# Altium footprint library SS_Connectors.PcbLib: 234 footprints (part 14 of 15)
Each footprint in its own frame and in the unit in brackets; x right, y up, seen from the top. Pads: shape width x height; smd on the part's side, far side on the other; paste and mask are expansions set on the pad; w line width, h text height; cw(c..) or ccw(c..) is an arc to the next point about the centre after c.
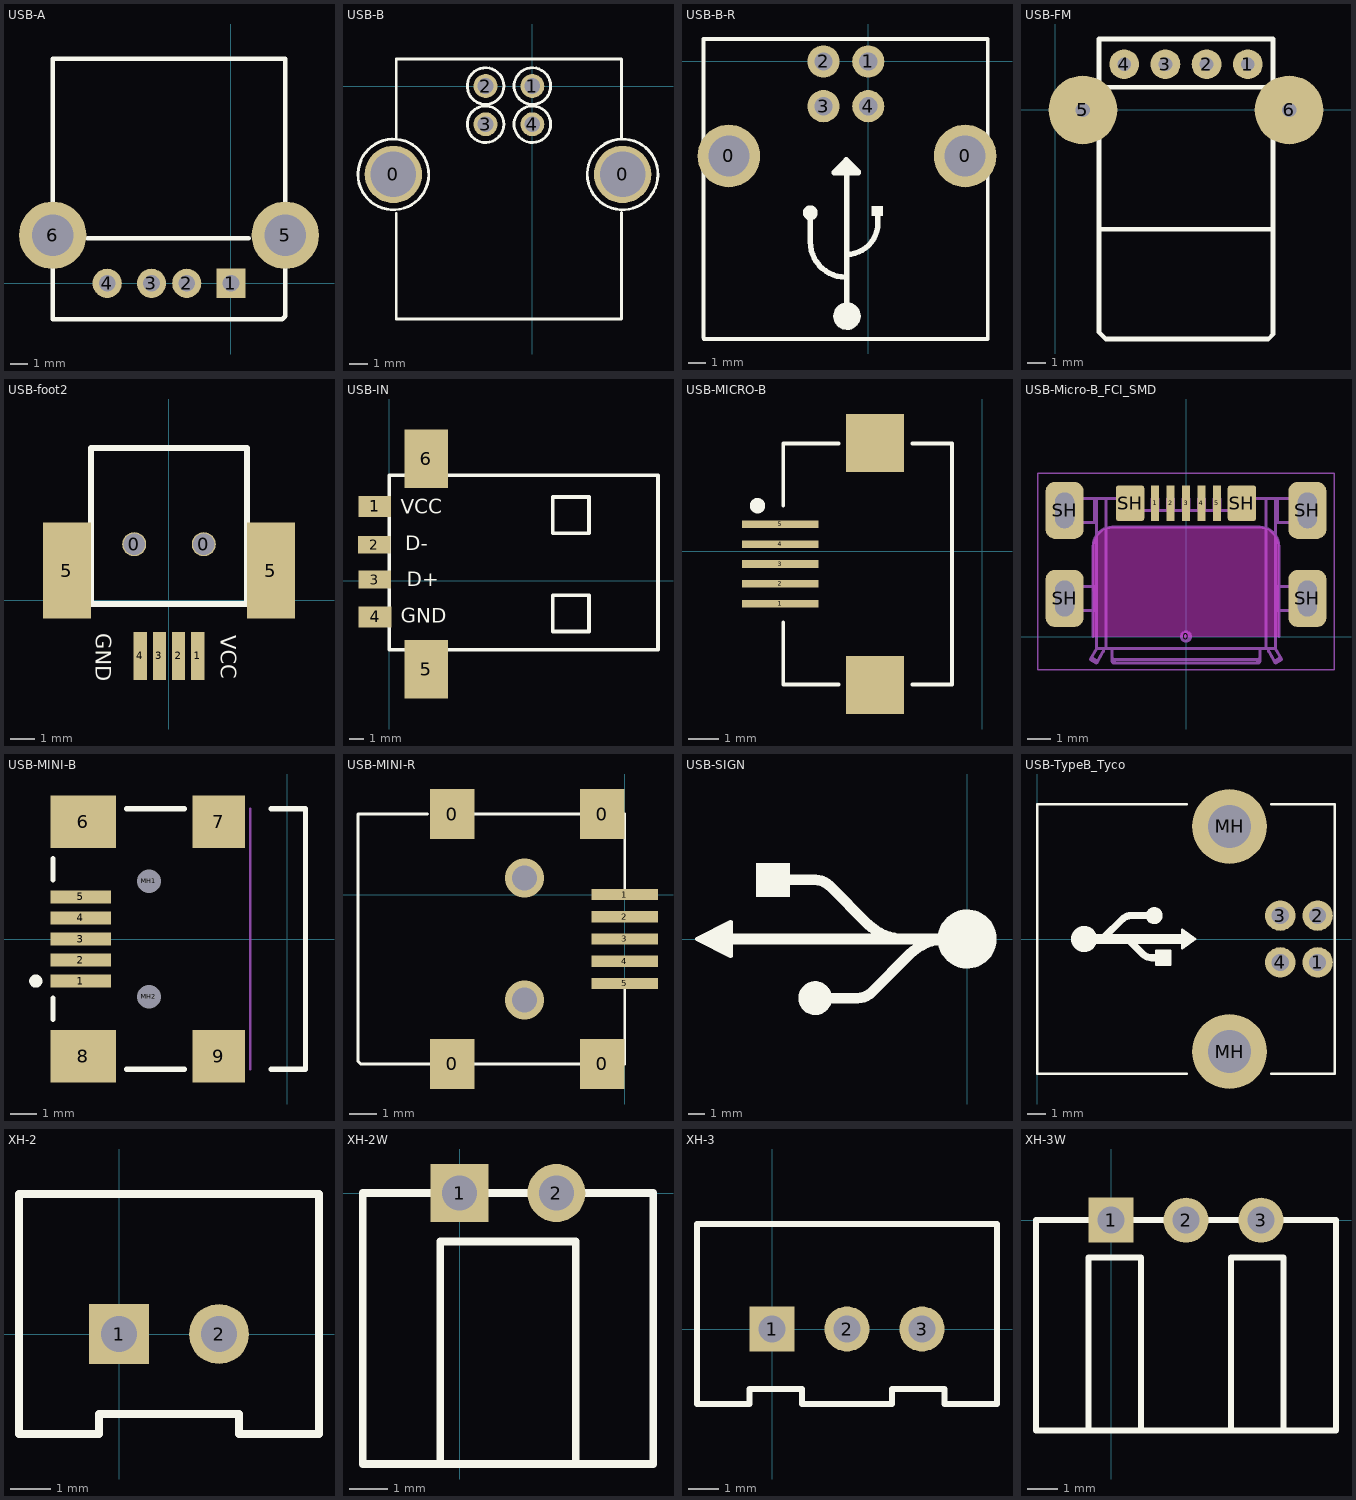
[diagram p13: the footprints below, top view; thin cyan lines are the x and y axes]

## USB-A [mil]
pads (6):
  rect 65x65 hole 37: 1(0,0)
  round 65 hole 37: 2(-98.5,0) 3(-177,0) 4(-275.6,0)
  round 150 hole 93: 5(121,107) 6(-397,107)
Top Overlay:
  lines w10: -320,100 40,100 ; -397,-80 -397,107 -397,500 121,500 121,107 121,-73 114,-80 -397,-80
3D body: height 274.23, standoff -164.75, extent -449.02,-45 173.02,494.37

## USB-B [mil]
pads (6):
  round 120 hole 95: 0(-291,-185) 0(189,-185)
  round 50 hole 33: 1(0,0) 2(-98,0) 3(-98,-80) 4(0,-80)
Top Overlay:
  circle w6: c-98,0 r38.3
  circle w6: c-98,-80 r38.3
  circle w6: c0,0 r38.3
  circle w6: c0,-80 r38.3
  lines w6: -365.04,-185 ccw(c-291,-185) -365,-182.5 ; -285,-266.5 -285,-488 187,-488 187,-264.5 ; -285,-108.5 -285,57 187,57 187,-110.5 ; 114.96,-185 ccw(c189,-185) 115,-182.5

## USB-B-R [mm]
pads (6):
  round 3.5 hole 2.3: 0(-7.789,-5.281) 0(5.411,-5.281)
  round 1.8 hole 1.016: 1(0,0) 2(-2.5,0) 3(-2.5,-2.5) 4(0,-2.5)
Top Overlay:
  rectangle: 0.186,-8.631 0.836,-8.081
  rectangle: -3.339,-8.531 -3.139,-8.331
  rectangle: -1.514,-14.706 -0.814,-13.756
  lines w0.203: -9.206,-15.432 -9.206,1.256 6.669,1.256 6.669,-15.508 ; -9.189,0.169 -9.189,-15.506 6.686,-15.506 6.686,0.169 ; -9.114,1.236 6.686,1.236
  lines w0.305: -3.239,-8.581 -3.239,-10.081 ccw(c-1.264,-10.081) -1.264,-12.056 ; -3.025,-8.605 cw(c-3.239,-8.456) -2.989,-8.532 ; -1.914,-6.206 -0.564,-6.206 -0.814,-5.956 -1.639,-5.956 ; -1.889,-6.181 -1.214,-5.506 -1.214,-13.981 ; -1.614,-13.906 ccw(c-1.214,-14.156) -1.564,-13.84 ; -1.516,-13.707 ccw(c-1.189,-14.231) -1.469,-13.681 ; -1.239,-5.756 -1.239,-5.481 -0.564,-6.156 ; -1.214,-10.781 ccw(c-1.214,-9.031) 0.536,-9.031 0.536,-8.681 ; -1.09,-13.979 ccw(c-1.264,-14.106) -1.05,-14.079

## USB-FM [mil] "USBFM"
height 196.85
pads (6):
  round 65 hole 30: 1(420,100) 2(330,100) 3(240,100) 4(150,100)
  round 150 hole 31.5: 5(60,0) 6(510,0)
Top Overlay:
  lines w10: 95,-260 475,-260 ; 95,50 475,50 ; 95,-485 95,-195 95,155 475,155 475,-195 475,-490 465,-500 110,-500 95,-485

## USB-foot2 [mm]
pads (8):
  round 1 hole 0.9: 0(-1.45,2.325) 0(1.45,2.325)
  rect 0.55x2 smd: 1(1.2,-2.325) 2(0.4,-2.325) 3(-0.4,-2.325) 4(-1.2,-2.325)
  rect 2x4 smd: 5(-4.25,1.225) 5(4.25,1.225)
Top Overlay:
  lines w0.254: -3.25,-0.175 3.25,-0.175 3.25,6.325 -3.25,6.325 -3.25,-0.175
  text "GND" at -3.05,-1.375 h0.64
  text "VCC" at 2.15,-1.475 h0.64

## USB-IN [mm]
pads (6):
  rect 2.24x1.424 smd: 1(-1,5.1) 4(-0.975,-2.5)
  rect 2.24x1.224 smd: 2(-1.025,2.475) 3(-1,0.075)
  rect 3x4 smd: 5(2.54,-6.096) 6(2.54,8.382)
Top Overlay:
  lines w0.254: 0,-4.75 18.5,-4.75 18.5,7.25 0,7.25 0,-4.75 ; 11.25,-3.5 13.75,-3.5 13.75,-1 11.25,-1 11.25,-3.5 ; 11.25,3.25 13.75,3.25 13.75,5.75 11.25,5.75 11.25,3.25
  text "VCC" at 0.8,4.6 h1
  text "GND" at 0.8,-2.9 h1
  text "D-" at 1.1,2.1 h1
  text "D+" at 1.2,-0.4 h1

## USB-MICRO-B [mm] "Connector; USB2.0, Type A, SM; 5 Position; Right Angle"
height 3.9
pads (7):
  rect 2.5x0.25 smd: 1(-6.6,-1.719) 2(-6.6,-1.069) 3(-6.6,-0.419) 4(-6.6,0.231) 5(-6.6,0.881)
  rect 1.9x1.9 smd: ""(-3.505,-4.369) ""(-3.505,3.531)
Top Overlay:
  circle w0.25: c-7.348,1.486 r0.125
  lines w0.127: -6.508,-4.356 -4.7,-4.356 ; -6.508,-4.319 -6.508,-2.324 ; -6.508,1.486 -6.508,3.481 ; -6.508,3.518 -4.7,3.518 ; -2.286,-4.356 -1,-4.356 ; -2.286,3.518 -1,3.518 ; -1,-4.319 -1,3.481
3D body: height 2.71, standoff -0.23, extent -6.358,-4.422 -0.928,3.558

## USB-Micro-B_FCI_SMD [mm]
height 2.286
pads (12):
  round 0.508 on Mech14: 0(0,0)
  rrect20% 0.35x1.5 smd: 1(-1.3,5.6) 2(-0.65,5.6) 3(0,5.6) 4(0.65,5.6) 5(1.3,5.6)
  rrect50% 1.6x2.4 hole 0.8 slot 1.5 at 90 deg: SH(-5.1,1.6) SH(-5.1,5.3) SH(5.1,1.6) SH(5.1,5.3)
  rrect20% 1.2x1.5 smd: SH(-2.35,5.6) SH(2.35,5.6)
Top Solder:
  region: 1.905,4.826 1.905,6.35 -1.905,6.35 -1.905,4.826
Keep-Out Layer:
  board cut-out: -3.9,0 -3.907,3.797 -3.879,4.005 -3.799,4.2 -3.671,4.367 -3.503,4.495 -3.309,4.576 -3.1,4.603 -3.1,4.597 3.1,4.603 3.309,4.576 3.503,4.495 3.671,4.367 3.799,4.2 3.879,4.005 3.907,3.797 3.9,3.797 3.9,0
Mechanical 13:
  lines w0.127: -4.85,1.1 -4.85,2.1 ; -4.85,4.8 -4.85,5.8 ; -3.97,-0.881 -3.71,-1.031 ; -3.85,1.1 -3.85,2.1 ; -3.85,4.8 -3.85,5.8 ; -3.75,1.1 -5.25,1.1 -5.25,2.1 -3.75,2.1 ; -3.75,4.8 -5.25,4.8 -5.25,5.8 -2.577,5.8 cw(c-2.577,5.6) -2.443,5.748 -2.007,5.352 ccw(c-1.873,5.5) -1.873,5.3 1.873,5.3 ccw(c1.873,5.5) 2.007,5.352 2.443,5.748 cw(c2.577,5.6) 2.577,5.8 5.25,5.8 5.25,4.8 3.75,4.8 ; -3.75,5.8 -3.75,-0.5 ; -3.45,-0.5 cw(c-3.75,-0.501) -3.49,-0.651 -3.76,-1.118 -4.02,-0.968 -3.75,-0.5 ; -3.35,-0.5 -3.35,5.8 ; -3.1,-0.881 ccw(c-3.006,-0.874) -3,-0.968 ; -2.526,5.793 -2.526,5.8 ; -2.229,5.553 ccw(c-2.275,5.8) -2.024,5.8 -1.825,5.8 -1.825,5.3 ; -1.425,5.3 -1.425,5.8 -1.175,5.8 -1.175,5.3 ; -0.775,5.3 -0.775,5.8 -0.525,5.8 -0.525,5.3 ; -0.125,5.3 -0.125,5.8 0.125,5.8 0.125,5.3 ; 0.525,5.3 0.525,5.8 0.775,5.8 0.775,5.3 ; 1.175,5.3 1.175,5.8 1.425,5.8 1.425,5.3 ; 1.825,5.3 1.825,5.8 2.024,5.8 ccw(c2.275,5.8) 2.229,5.553 ; 2.526,5.793 2.526,5.8 ; 3.1,-0.881 cw(c3.006,-0.874) 3,-0.968 ; 3.35,-0.5 3.35,5.8 ; 3.45,-0.5 ccw(c3.75,-0.501) 3.49,-0.651 3.76,-1.118 4.02,-0.968 3.75,-0.5 ; 3.71,-1.031 3.97,-0.881 ; 3.75,1.1 5.25,1.1 5.25,2.1 3.75,2.1 ; 3.75,5.8 3.75,-0.5 ; 3.85,1.1 3.85,2.1 ; 3.85,4.8 3.85,5.8 ; 4.85,1.1 4.85,2.1 ; 4.85,4.8 4.85,5.8 ; -3.75,-0.5 -3.1,-0.5 ; -3.1,-0.5 3.1,-0.501 ; -3.1,-0.5 -3.1,-1.031 ccw(c-3.006,-1.024) -3,-1.118 ; -3,-1.118 3,-1.118 ; -3,-1.118 -3,-0.968 ; -3,-0.968 3,-0.968 ; 3,-1.118 ccw(c3.006,-1.024) 3.1,-1.031 3.1,-0.5 ; 3,-1.118 3,-0.968 ; 3.1,-0.5 3.75,-0.5
Mechanical 14:
  lines w0.076: -6.223,-1.397 -6.223,6.858 6.223,6.858 6.223,-1.397 -6.223,-1.397
  lines w0.127: -3.9,0 -3.9,3.797 cw(c-3.1,3.797) -3.1,4.597 3.1,4.597 cw(c3.1,3.797) 3.9,3.797 3.9,0
3D body: height 2.15, standoff -0.92, extent -5.25,-1.118 5.25,5.8
3D body: height 4.67, standoff -3.53, extent -5.35,-21.579 5.35,2.921

## USB-MINI-B [mm] "Connector; USB2.0, Type A, SM; 5 Position; Right Angle"
height 3.9
pads (11):
  rect 2.3x0.5 smd: 1(-7.85,-1.6) 2(-7.85,-0.8) 3(-7.85,0) 4(-7.85,0.8) 5(-7.85,1.6)
  rect 2.5x2 smd: 6(-7.75,4.45) 8(-7.75,-4.45)
  rect 2x2 smd: 7(-2.6,4.45) 9(-2.6,-4.45)
  round 0.6 hole 0.9 unplated: MH1(-5.25,2.2) MH2(-5.25,-2.2)
Top Overlay:
  circle w0.25: c-9.55,-1.6 r0.125
  lines w0.2: -8.9,-3.05 -8.9,-2.25 ; -8.9,2.25 -8.9,3.05 ; -6.1,-4.95 -3.9,-4.95 ; -6.1,4.95 -3.9,4.95 ; -0.6,-4.95 0.7,-4.95 0.7,4.95 -0.6,4.95
Mechanical 1:
  lines w0.1: -1.4,-4.95 -1.4,4.95
  text "PCB Edge" at 0.432,-4.036 h0.25
3D body: height 3.95, standoff -1, extent -8.55,-5.35 0.65,5.35

## USB-MINI-R [mm]
pads (9):
  rect 1.6x1.8 smd: 0(-6.2,-6.1) 0(-6.2,2.9) 0(-0.8,-6.1) 0(-0.8,2.9)
  rect 2.4x0.4 smd: 1(0,0) 2(0,-0.8) 3(0,-1.6) 4(0,-2.4) 5(0,-3.2)
via -3.6,0.6 diameter 1.4 hole 0.9
via -3.6,-3.8 diameter 1.4 hole 0.9
Top Overlay:
  lines w0.1: -7.1,2.9 -9.6,2.9 -9.6,-6 -9.5,-6.1 -7,-6.1 ; -5.4,-6.1 -1.6,-6.1 ; -5.4,2.9 -1.6,2.9 ; 0,-6.1 0,-3.4 ; 0,0.2 0,2.9
3D body: height 3.95, standoff -1, extent -9.159,-6.976 0.041,3.724

## USB-SIGN [mm]
Top Overlay:
  circle w1.016: c-9.144,-3.556 r0.508
  circle w1.524: c0,0 r1.016
  region: -10.668,4.572 -12.7,4.572 -12.7,2.54 -10.668,2.54
  lines w0.254: -15.24,0.025 -14.681,0.483 -14.732,0 -15.469,0.152 -14.656,-0.457 -14.453,0.61 -15.723,0.025 -14.453,-0.635 -14.453,0.787 -15.951,0.025 -14.224,-0.838 ; -16.256,0 -14.224,1.016 -14.224,-1.016 -16.256,0
  lines w0.635: -14.732,0 -8.636,0 0,0 -1.27,0 ccw(c-1.27,-3.066) -3.438,-0.898 -5.737,-3.197 cw(c-6.604,-2.33) -6.604,-3.556 -8.636,-3.556 ; -11.176,3.556 -9.144,3.556 cw(c-9.144,2.33) -8.277,3.197 -5.978,0.898 ccw(c-3.81,3.066) -3.81,0 -3.048,0 ; -8.128,-3.556 -7.874,-3.556 ; -4.318,0 -2.54,0

## USB-TypeB_Tyco [mm]
height 11.1
pads (6):
  round 1.626 hole 0.914: 1(14.99,-1.25) 2(14.99,1.25) 3(12.99,1.25) 4(12.99,-1.25)
  round 4 hole 2.3: MH(10.28,-6.02) MH(10.28,6.02)
Top Overlay:
  circle w0.889: c2.5,0 r0.254
  circle w0.508: c6.25,1.25 r0.2
  region: 8.45,0 7.75,-0.5 7.75,0.5
  region: 7.1,-1.375 6.35,-1.375 6.35,-0.625 7.1,-0.625
  lines w0.127: 8,-7.2 0,-7.2 0,7.2 8,7.2 ; 12.5,-7.2 15.9,-7.2 15.9,7.2 12.5,7.2 ; 6.35,-1.375 6.35,-0.625 7.1,-0.625 7.1,-1.375 6.35,-1.375 ; 7.75,-0.5 8.45,0 7.75,0.5 7.75,-0.5
  lines w0.381: 3.547,0.062 4.547,1.062 cw(c5,0.61) 5,1.25 6.25,1.25 ; 4.897,-0.062 5.647,-0.812 ccw(c6.1,-0.36) 6.1,-1 6.35,-1
  lines w0.508: 3,0 7.75,0
3D body: height 11.5, standoff -3.93, extent 0,-7.194 15.7,7.194

## XH-2 [mm] "Connector; Header; 2 Position"
pads (2):
  rect 1.5x1.5 hole 0.9: 1(0,0)
  round 1.5 hole 0.9: 2(2.5,0)
Top Overlay:
  lines w0.2: -2.5,-2.5 -0.5,-2.5 -0.5,-2 3,-2 3,-2.5 5,-2.5 5,3.5 -2.5,3.5 -2.5,-2.5

## XH-2W [mm] "Connector; Header; 2 Position"
pads (2):
  rect 1.5x1.5 hole 0.9: 1(0,0)
  round 1.5 hole 0.9: 2(2.5,0)
Top Overlay:
  lines w0.2: -0.5,-7 3,-7 ; -0.5,-7 -2.5,-7 -2.5,0 5,0 5,-7 3,-7 ; -0.5,-7 -0.5,-1.25 3,-1.25 3,-7

## XH-3 [mm] "Connector; Header; 2 Position"
pads (3):
  rect 1.5x1.5 hole 0.9: 1(0,0)
  round 1.5 hole 0.9: 2(2.5,0) 3(5,0)
Top Overlay:
  lines w0.2: -2.5,-2.5 -2.5,3.5 7.5,3.5 7.5,-2.5 5.75,-2.5 5.75,-2 4,-2 4,-2.5 1,-2.5 1,-2 -0.75,-2 -0.75,-2.5 -2.5,-2.5

## XH-3W [mm] "Connector; Header; 2 Position"
pads (3):
  rect 1.5x1.5 hole 0.9: 1(0,0)
  round 1.5 hole 0.9: 2(2.5,0) 3(5,0)
Top Overlay:
  lines w0.2: -0.75,-7 -0.75,-1.25 1,-1.25 1,-7 4,-7 4,-1.25 5.75,-1.25 5.75,-7 ; -0.75,-7 -2.5,-7 -2.5,0 7.5,0 7.5,-7 5.75,-7 ; -0.75,-7 5.75,-7